# Altium schematic symbol library Passive.SchLib: 86 symbols (part 2 of 4)
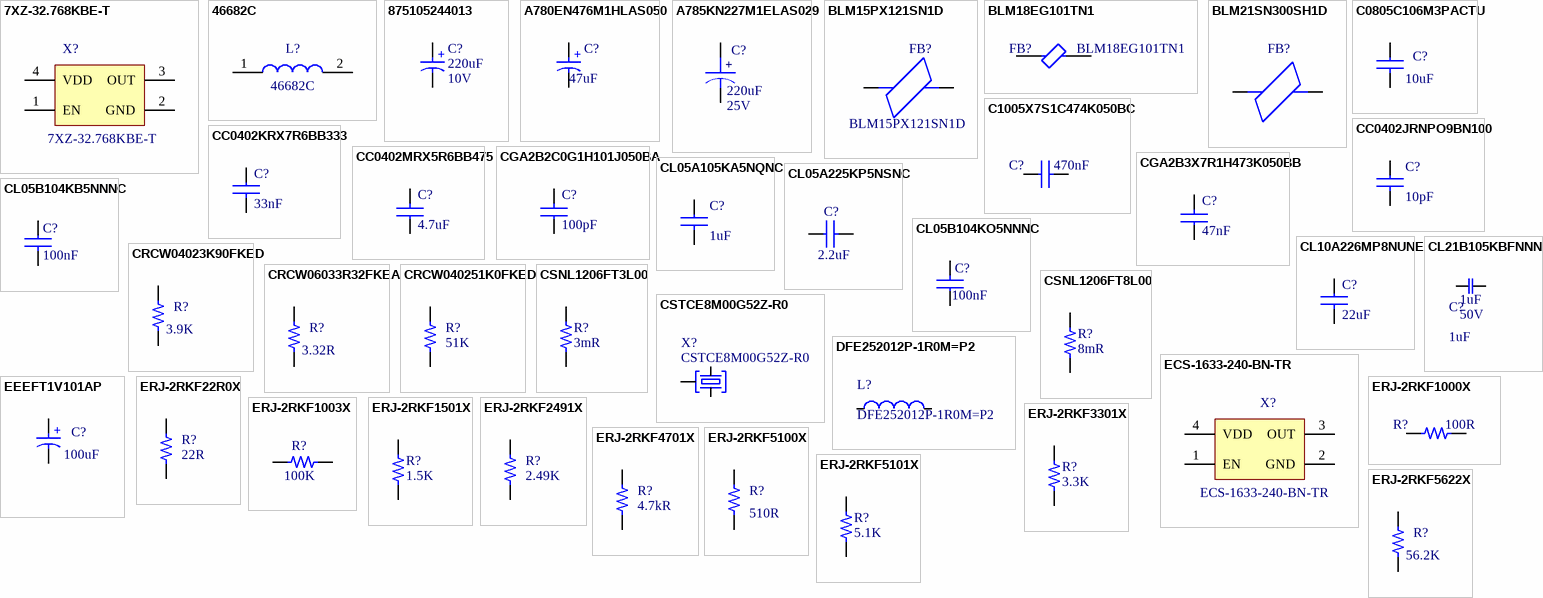
[diagram p3: symbols 7XZ-32.768KBE-T to ERJ-2RKF5622X]

## CSNL1206FT8L00
designator R?  value 8mR  (hidden comment: CSNL1206FT8L00)
Res Metal Foil 1206 0.008 Ohm 1% 1W 50ppm/C Molded SMD SMD Plastic T/R; Manufacturer: Stackpole Electronics; Temperature Coefficient: 50ppm/°C; Library: Hexabitz; Supplier: Digikey; Supplier Part Number: 738-CSNL1206FT8L00DKR-ND; Manufacturer Part Number: CSNL1206FT8L00; RoHS: Yes; Category: Chip SMD Resistors; Stock: 3650; Pricing: 1=0.67, 10=0.432, 25=0.368, 50=0.3276, 100=0.2933, 250=0.25556, 500=0.23196, 1000=0.2119 (USD); Mounting Technology: Surface Mount; Case/Package: 1206; Contact Plating: Tin,Matte; Min Operating Temperature: -55°C; Max Operating Temperature: 170°C; Packaging: Tape and Reel; Tolerance: 1%; Power Rating: 1W; Features: Moisture Resistant; Series: CSNL; Max Power Dissipation: 1W; Number of Terminations: 2; Radiation Hardening: No; RoHS Compliant: Yes; ComponentLink1URL: https://www.seielect.com/Catalog/SEI-CSNL.pdf?src-supplier=Avnet; ComponentLink1Description: https://www.seielect.com/Catalog/SEI-CSNL.pdf?src-supplier=Avnet; ComponentLink2URL: https://www.seielect.com/catalog/sei-csnl.pdf?src-supplier=Digikey; ComponentLink2Description: https://www.seielect.com/catalog/sei-csnl.pdf?src-supplier=Digikey; Supplier 1: Digikey; Supplier Part Number 1: 738-CSNL1206FT8L00DKR-ND
footprint R1206
pins: 1, 2

## CSTCE8M00G52Z-R0
designator X?
Ceramic Resonator 8MHz ±0.5% (Tol) ±0.2% (Stability) 10pF 40Ohm 3-Pin CSMD T/R; Manufacturer: Murata; Library: Hexabitz; Impedance: 40R; Value: 10pF; Case Code (Imperial): 1206; Case Code (Metric): 3216; Case/Package: 1206; Category: Capacitors; Contact Plating: Gold; Frequency: 8MHz; Frequency Stability: 0.2%; Frequency Tolerance: 0.5%; Height: 0.031inch; Length: 3.2mm; Load Capacitance: 10pF; Manufacturer Part Number: CSTCE8M00G52Z-R0; Max Operating Temperature: 125°C; Min Operating Temperature: -40°C; Mounting Technology: Surface Mount; Pins: 3; Package Quantity: 1; Packaging: Tape and Reel; RoHS Compliant: Yes; Self Resonant Frequency: 8MHz; Series: CERALOCK®; Termination: SMD/SMT; Tolerance: 0.5%; Width: 1.3mm
footprint XTALL_CSTCE8M00G52
pins: P$1 1, P$2 2, P$3 3

## DFE252012P-1R0M=P2
designator L?
Inductor Power Shielded Wirewound 1uH 20% 1MHz Metal Alloy 3.2A 0.042Ohm DCR 1008 T/R; Manufacturer: Murata; Library: Hexabitz; Core Material: Ferrite; Current Rating: 4.3A; DC Resistance (DCR): 42mR; Supplier: Digikey; Supplier Part Number: 490-10647-6-ND; Manufacturer Part Number: DFE252012P-1R0M=P2; RoHS: Yes; Category: Fixed Inductors; Stock: 162342; Pricing: 1=0.22, 10=0.179, 100=0.1471, 1000=0.12099 (USD); Mounting Technology: Surface Mount; Case/Package: 1008; Case Code (Metric): 2520; Case Code (Imperial): 1008; Min Operating Temperature: -40°C; Max Operating Temperature: 125°C; Value: 1uH; Packaging: Cut Tape; Shielding: Shielded; Test Frequency: 1MHz; Max DC Current: 3.2A; Tolerance: 20%; Series: DFE252012P; Inductance Tolerance: 20%; RMS Current (Irms): 3.2A; Saturation Current: 4.3A; ESR: 42mR; Length: 0.098inch; Width: 0.079inch; Height: 1.2mm; Height - Seated (Max): 0.039inch; Depth: 2mm; RoHS Compliant: Yes; ComponentLink1URL: http://www.farnell.com/datasheets/2550134.pdf?src-supplier=Farnell; ComponentLink1Description: http://www.farnell.com/datasheets/2550134.pdf?src-supplier=Farnell; ComponentLink2URL: https://www.murata.com/~/media/webrenewal/products/inductor/chip/tokoproducts/wirewoundmetalalloychiptype/m_dfe252012p.ashx?src-supplier=Digikey; ComponentLink2Description: https://www.murata.com/~/media/webrenewal/products/inductor/chip/tokoproducts/wirewoundmetalalloychiptype/m_dfe252012p.ashx?src-supplier=Digikey; ComponentLink3URL: http://www.murata.com/~/media/webrenewal/products/inductor/chip/tokoproducts/wirewoundmetalalloychiptype/m_dfe252012p.ashx?src-supplier=Digikey; ComponentLink3Description: http://www.murata.com/~/media/webrenewal/products/inductor/chip/tokoproducts/wirewoundmetalalloychiptype/m_dfe252012p.ashx?src-supplier=Digikey; ComponentLink4URL: http://www.toko.co.jp/products/pdf/inductors/dfe252012p.pdf?src-supplier=Avnet; ComponentLink4Description: http://www.toko.co.jp/products/pdf/inductors/dfe252012p.pdf?src-supplier=Avnet; Supplier 1: Digikey; Supplier Part Number 1: 490-10647-6-ND
footprint FP-DFE252012C-MFG
pins: 1, 2

## ECS-1633-240-BN-TR
designator X?
Oscillator XO 24MHz ±50ppm 15pF CMOS 55% 3.3V 4-Pin Mini-SMD T/R; Manufacturer: ECS International; Library: Hexabitz; Max Supply Voltage: 3.46V; Min Supply Voltage: 3.13V; Max Supply Current: 7mA; Supplier: Digikey; Supplier Part Number: XC1936DKR-ND; RoHS: Yes; Category: Oscillators; Stock: 280; Pricing: 1=1.63, 10=1.413, 50=1.2806, 100=1.2277, 500=1.113 (USD); Mounting Technology: Surface Mount; Case/Package: SMD/SMT; Min Operating Temperature: -40°C; Max Operating Temperature: 85°C; Frequency: 24MHz; Load Capacitance: 15pF; Packaging: Tape and Reel; Operating Supply Voltage: 3.3V; Termination: SMD/SMT; Frequency Stability: 50ppm; Series: ECS-1633; Lead Pitch: 0.5mm; RoHS Compliant: Yes; ComponentLink1URL: http://www.mouser.com/ds/2/122/ECS_1618-220164.pdf?src-supplier=Mouser; ComponentLink1Description: http://www.mouser.com/ds/2/122/ECS_1618-220164.pdf?src-supplier=Mouser; ComponentLink2URL: http://www.ecsxtal.com/store/pdf/ECS_1633.pdf?src-supplier=Digikey; ComponentLink2Description: http://www.ecsxtal.com/store/pdf/ECS_1633.pdf?src-supplier=Digikey; Supplier 1: Digikey; Supplier Part Number 1: XC1936DKR-ND; Manufacturer Part Number: ECS-1633-240-BN-TR
footprint CRY_NZ2016SH_4P
pins: 1 EN, 2 GND, 3 OUT, 4 VDD

## EEEFT1V101AP
designator C?  value 100uF  (hidden comment: EEEFT1V101AP)
Cap Aluminum 100uF 35V 20% (6.3 X 5.8mm) SMD 0.26 Ohm 300mA 2000h 105C T/R; Manufacturer: Panasonic; Manufacturer Part Number: EEE-FT1V101AP; Library: Hexabitz; ESR (Equivalent Series Resistance): 260mR; Leakage Current: 35uA; Life (Hours): 2000Hour; Dissipation Factor: 12%; Lead Diameter: 0.65mm; Supplier: Digikey; Supplier Part Number: PCE5016DKR-ND; RoHS: Yes; Category: Aluminum Electrolytic Capacitors; Stock: 7618; Pricing: 1=0.64, 10=0.399, 50=0.2978, 100=0.2656, 500=0.21018 (USD); Mounting Technology: Surface Mount,PCB; Case/Package: Radial; Pins: 2; Min Operating Temperature: -55°C; Max Operating Temperature: 105°C; Voltage Rating: 35V; Ripple Current (AC): 300mA; Packaging: Tape and Reel; Tolerance: 20%; Package Quantity: 1000; Voltage Rating (DC): 35V; Ripple Current: 300mA; Termination: SMD/SMT; Voltage: 35V; Series: FT; Construction: Cylindrical; Diameter: 6.3mm; Length: 5.8mm; Height: 5.8mm; Lead Pitch: 1.8mm; Ratings: AEC-Q200; Radiation Hardening: No; Reach SVHC Compliant: No; RoHS Compliant: Yes; Supplier 1: Digikey; Supplier Part Number 1: PCE5016DKR-ND; ComponentLink1URL: https://datasheet.ciiva.com/11779/0900766b80f4973e-11779553.pdf?src-supplier=Rs; ComponentLink1Description: https://datasheet.ciiva.com/11779/0900766b80f4973e-11779553.pdf?src-supplier=Rs; ComponentLink2URL: https://datasheet.ciiva.com/43458/1790597-43458694.pdf?src-supplier=Farnell; ComponentLink2Description: https://datasheet.ciiva.com/43458/1790597-43458694.pdf?src-supplier=Farnell; ComponentLink3URL: https://datasheet.ciiva.com/6134/1790597-6134203.pdf?src-supplier=Farnell; ComponentLink3Description: https://datasheet.ciiva.com/6134/1790597-6134203.pdf?src-supplier=Farnell; ComponentLink4URL: https://datasheet.ciiva.com/46376/1790597-46376763.pdf?src-supplier=Element14; ComponentLink4Description: https://datasheet.ciiva.com/46376/1790597-46376763.pdf?src-supplier=Element14; ComponentLink5URL: https://datasheet.ciiva.com/28692/1244238-28692665.pdf?src-supplier=Element14; ComponentLink5Description: https://datasheet.ciiva.com/28692/1244238-28692665.pdf?src-supplier=Element14; ComponentLink6URL: https://datasheet.ciiva.com/28692/1244238-28692663.pdf?src-supplier=Element14; ComponentLink6Description: https://datasheet.ciiva.com/28692/1244238-28692663.pdf?src-supplier=Element14; ComponentLink7URL: https://datasheet.ciiva.com/46385/1790597-46385772.pdf?src-supplier=Element14; ComponentLink7Description: https://datasheet.ciiva.com/46385/1790597-46385772.pdf?src-supplier=Element14; ComponentLink8URL: https://datasheet.ciiva.com/14596/70243693-14596537.pdf?src-supplier=Allied+Electronics; ComponentLink8Description: https://datasheet.ciiva.com/14596/70243693-14596537.pdf?src-supplier=Allied+Electronics
footprint CASE_D_AL
pins: 1 P, 2 N
text: +

## ERJ-2RKF22R0X
designator R?  value 22R  (hidden comment: ERJ-2RKF22R0X)
SMD Chip Resistor, 22 Ohm, ï¿½ 1%, 100 mW, 0402 [1005 Metric], Thick Film, Precision; Manufacturer: Panasonic; Library: Hexabitz; Power Rating: 100mW; Voltage Rating: 50V; Temperature Coefficient: 100ppm/°C; Supplier: Digikey; Supplier Part Number: P22.0LDKR-ND; Manufacturer Part Number: ERJ-2RKF22R0X; RoHS: Yes; Category: Chip SMD Resistors; Stock: 500932; Pricing: 1=0.1, 10=0.028, 100=0.0138, 1000=0.00766, 2500=0.00632, 5000=0.00554 (USD); Mounting Technology: Surface Mount; Case/Package: 0402; Pins: 2; Case Code (Imperial): 0402; Case Code (Metric): 1005; Weight: 2.8E-05oz; Contact Plating: Tin; Min Operating Temperature: -55°C; Max Operating Temperature: 155°C; Tolerance: 1%; Packaging: Tape and Reel; Package Quantity: 1; Resistor Type: Thick Film; Termination: SMD/SMT; Number of Terminations: 2; Max Power Dissipation: 100mW; Voltage Rating (DC): 50V; Features: Automotive AEC-Q200; Series: ERJ; Construction: Rectangular; Technology: THICK FILM; Resistance Tolerance: 1%; Length: 1mm; Width: 0.5mm; Height: 0.35mm; Depth: 0.5mm; Reach SVHC Compliant: Yes; Military Standard: Not; Lead Free: Lead Free; RoHS Compliant: Yes; ComponentLink1URL: https://datasheet.ciiva.com/11821/0900766b80f80784-11821251.pdf?src-supplier=Rs; ComponentLink1Description: https://datasheet.ciiva.com/11821/0900766b80f80784-11821251.pdf?src-supplier=Rs; ComponentLink2URL: https://datasheet.ciiva.com/7909/426256-7909542.pdf?src-supplier=Element14; ComponentLink2Description: https://datasheet.ciiva.com/7909/426256-7909542.pdf?src-supplier=Element14; ComponentLink3URL: https://datasheet.ciiva.com/46373/1678782-46373429.pdf?src-supplier=Element14; ComponentLink3Description: https://datasheet.ciiva.com/46373/1678782-46373429.pdf?src-supplier=Element14; ComponentLink4URL: https://datasheet.ciiva.com/46373/1678782-46373430.pdf?src-supplier=Element14; ComponentLink4Description: https://datasheet.ciiva.com/46373/1678782-46373430.pdf?src-supplier=Element14; ComponentLink5URL: https://datasheet.ciiva.com/16426/aoa0000ce2-16426205.pdf?src-supplier=Future+Electronics; ComponentLink5Description: https://datasheet.ciiva.com/16426/aoa0000ce2-16426205.pdf?src-supplier=Future+Electronics; ComponentLink6URL: https://datasheet.ciiva.com/9191/aoa0000ce2-9191819.pdf?src-supplier=Avnet; ComponentLink6Description: https://datasheet.ciiva.com/9191/aoa0000ce2-9191819.pdf?src-supplier=Avnet; Supplier 1: Digikey; Supplier Part Number 1: P22.0LDKR-ND
footprint R0402_3
pins: 1, 2

## ERJ-2RKF1000X
designator R?  value 100R  (hidden comment: ERJ-2RKF1000X)
Resistor Thick Film 0402 100 Ohm 1% 1/10W 100ppm/C Molded SMD Punched Carrier T/R; Manufacturer: Panasonic; Temperature Coefficient: 100ppm/°C; Voltage Rating: 50V; Max Power Dissipation: 100mW; Library: Hexabitz; Supplier: Digikey; Supplier Part Number: P100LDKR-ND; Manufacturer Part Number: ERJ-2RKF1000X; RoHS: Yes; Category: Chip SMD Resistors; Stock: 515171; Pricing: 1=0.1, 10=0.028, 100=0.0138, 1000=0.00766, 2500=0.00632, 5000=0.00554 (USD); Mounting Technology: Surface Mount; Case/Package: 0402; Pins: 2; Contact Plating: Tin; Case Code (Imperial): 0402; Case Code (Metric): 1005; Min Operating Temperature: -55°C; Max Operating Temperature: 155°C; Resistor Type: Thick Film; Packaging: Tape and Reel; Package Quantity: 1; Termination: SMD/SMT; Number of Terminations: 2; Voltage Rating (DC): 50V; Features: Automotive AEC-Q200; Series: ERJ; Technology: THICK FILM; Resistance Tolerance: 1%; Construction: Rectangular; Length: 1mm; Width: 0.5mm; Height: 0.35mm; Depth: 0.5mm; Radiation Hardening: No; Reach SVHC Compliant: No; Military Standard: Not; RoHS Compliant: Yes; Lead Free: 5697LeadFree; ComponentLink1URL: https://datasheet.ciiva.com/27056/2007311-27056035.pdf?src-supplier=Jameco; ComponentLink1Description: https://datasheet.ciiva.com/27056/2007311-27056035.pdf?src-supplier=Jameco; ComponentLink2URL: https://datasheet.ciiva.com/11821/0900766b80f80784-11821173.pdf?src-supplier=Rs; ComponentLink2Description: https://datasheet.ciiva.com/11821/0900766b80f80784-11821173.pdf?src-supplier=Rs; ComponentLink3URL: https://datasheet.ciiva.com/7830/426256-7830973.pdf?src-supplier=Element14; ComponentLink3Description: https://datasheet.ciiva.com/7830/426256-7830973.pdf?src-supplier=Element14; ComponentLink4URL: https://datasheet.ciiva.com/43467/1678782-43467223.pdf?src-supplier=Farnell; ComponentLink4Description: https://datasheet.ciiva.com/43467/1678782-43467223.pdf?src-supplier=Farnell; ComponentLink5URL: https://datasheet.ciiva.com/28514/1678782-28514175.pdf?src-supplier=Element14; ComponentLink5Description: https://datasheet.ciiva.com/28514/1678782-28514175.pdf?src-supplier=Element14; ComponentLink6URL: https://datasheet.ciiva.com/46372/1678782-46372741.pdf?src-supplier=Element14; ComponentLink6Description: https://datasheet.ciiva.com/46372/1678782-46372741.pdf?src-supplier=Element14; ComponentLink7URL: https://datasheet.ciiva.com/16776/70260748-16776427.pdf?src-supplier=Allied+Electronics; ComponentLink7Description: https://datasheet.ciiva.com/16776/70260748-16776427.pdf?src-supplier=Allied+Electronics; ComponentLink8URL: https://datasheet.ciiva.com/9186/aoa0000ce2-9186683.pdf?src-supplier=Avnet; ComponentLink8Description: https://datasheet.ciiva.com/9186/aoa0000ce2-9186683.pdf?src-supplier=Avnet; ComponentLink9URL: https://datasheet.ciiva.com/16199/aoa0000ce2-16199575.pdf?src-supplier=Future+Electronics; ComponentLink9Description: https://datasheet.ciiva.com/16199/aoa0000ce2-16199575.pdf?src-supplier=Future+Electronics; ComponentLink10URL: https://datasheet.ciiva.com/48531/aoa0000ce2-48531067.pdf?src-supplier=Avnet; ComponentLink10Description: https://datasheet.ciiva.com/48531/aoa0000ce2-48531067.pdf?src-supplier=Avnet; ComponentLink11URL: https://datasheet.ciiva.com/30260/aoa0000ce2-30260809.pdf?src-supplier=Onlinecomponents.com; ComponentLink11Description: https://datasheet.ciiva.com/30260/aoa0000ce2-30260809.pdf?src-supplier=Onlinecomponents.com; Power Rating: 100mW; Tolerance: 1%; Supplier 1: Digikey; Supplier Part Number 1: P100LDKR-ND; Supplier 2: Mouser; Supplier Part Number 2: 667-ERJ-2RKF1000X
footprint R0402_3
pins: 1, 2

## ERJ-2RKF1003X
designator R?  value 100K  (hidden comment: ERJ-2RKF1003X)
Res Thick Film 0402 100K Ohm 1% 1/10W ±100ppm/°C Molded SMD Punched Carrier T/R; Manufacturer: Panasonic; Power Rating: 100mW; Voltage Rating: 50V; Library: Hexabitz; Supplier: Digikey; Supplier Part Number: P100KLCT-ND; Manufacturer Part Number: ERJ-2RKF1003X; RoHS: Yes; Category: Chip SMD Resistors; Stock: 3425412; Pricing: 1=0.1, 10=0.028, 100=0.0138, 1000=0.00766, 2500=0.00632, 5000=0.00554 (USD); Case Code (Imperial): 0402; Case Code (Metric): 1005; Weight: 0.000388oz; Min Operating Temperature: -55°C; Max Operating Temperature: 155°C; Tolerance: 1%; Packaging: Cut Tape; Package Quantity: 10000; Termination: SMD/SMT; Temperature Coefficient: 100ppm/°C; Series: ERJ-2Rx; Technology: THICK FILM; Voltage Rating (DC): 50V; Length: 1mm; Width: 0.5mm; Height: 0.35mm; RoHS Compliant: Yes; ComponentLink1URL: https://datasheet.ciiva.com/34303/1987038-34303550.pdf?src-supplier=Jameco; ComponentLink1Description: https://datasheet.ciiva.com/34303/1987038-34303550.pdf?src-supplier=Jameco; ComponentLink2URL: https://datasheet.ciiva.com/11821/0900766b80f80784-11821175.pdf?src-supplier=Rs; ComponentLink2Description: https://datasheet.ciiva.com/11821/0900766b80f80784-11821175.pdf?src-supplier=Rs; ComponentLink3URL: https://datasheet.ciiva.com/7830/aoa0000ce2-7830725.pdf?src-supplier=Element14; ComponentLink3Description: https://datasheet.ciiva.com/7830/aoa0000ce2-7830725.pdf?src-supplier=Element14; ComponentLink4URL: https://datasheet.ciiva.com/7830/426256-7830974.pdf?src-supplier=Element14; ComponentLink4Description: https://datasheet.ciiva.com/7830/426256-7830974.pdf?src-supplier=Element14; ComponentLink5URL: https://datasheet.ciiva.com/43467/1678782-43467480.pdf?src-supplier=Farnell; ComponentLink5Description: https://datasheet.ciiva.com/43467/1678782-43467480.pdf?src-supplier=Farnell; ComponentLink6URL: https://datasheet.ciiva.com/22723/426256-22723902.pdf?src-supplier=Element14; ComponentLink6Description: https://datasheet.ciiva.com/22723/426256-22723902.pdf?src-supplier=Element14; ComponentLink7URL: https://datasheet.ciiva.com/16778/70260748-16778055.pdf?src-supplier=Allied+Electronics; ComponentLink7Description: https://datasheet.ciiva.com/16778/70260748-16778055.pdf?src-supplier=Allied+Electronics; ComponentLink8URL: https://datasheet.ciiva.com/16784/70260748-16784190.pdf?src-supplier=Allied+Electronics; ComponentLink8Description: https://datasheet.ciiva.com/16784/70260748-16784190.pdf?src-supplier=Allied+Electronics; Supplier 1: Digikey; Supplier Part Number 1: P100KLDKR-ND
footprint R0402_3
pins: 1, 2

## ERJ-2RKF1501X
designator R?  value 1.5K  (hidden comment: ERJ-2RKF1501X)
Res Thick Film 0402 1.5K Ohm 1% 1/10W +/-100ppm/ßC Molded SMD Punched Carrier T/R; Manufacturer: Panasonic; Temperature Coefficient: 100ppm/°C; Power Rating: 100mW; Voltage Rating: 50V; Library: Hexabitz; Supplier: Digikey; Supplier Part Number: P1.50KLDKR-ND; Manufacturer Part Number: ERJ-2RKF1501X; RoHS: Yes; Category: Chip SMD Resistors; Stock: 408359; Pricing: 1=0.1, 10=0.028, 100=0.0138, 1000=0.00766, 2500=0.00632, 5000=0.00554 (USD); Mounting Technology: Surface Mount; Case/Package: 0402; Pins: 2NUMBER; Contact Plating: Tin; Case Code (Metric): 1005; Case Code (Imperial): 0402; Min Operating Temperature: -55°C; Max Operating Temperature: 155°C; Tolerance: 1%; Resistor Type: Thick Film; Packaging: Tape and Reel; Package Quantity: 1; Number of Terminations: 2; Termination: SMD/SMT; Max Power Dissipation: 100mW; Features: Automotive AEC-Q200; Series: ERJ; Resistance Tolerance: 1%; Construction: Rectangular; Technology: THICK FILM; Voltage Rating (DC): 50V; Length: 1mm; Width: 0.5mm; Height: 0.35mm; Depth: 0.5mm; Reach SVHC Compliant: No; Military Standard: Not; RoHS Compliant: Yes; Lead Free: 5697LeadFree; ComponentLink1URL: https://datasheet.ciiva.com/11821/0900766b80f80784-11821235.pdf?src-supplier=Rs; ComponentLink1Description: https://datasheet.ciiva.com/11821/0900766b80f80784-11821235.pdf?src-supplier=Rs; ComponentLink2URL: https://datasheet.ciiva.com/34303/1987134-34303556.pdf?src-supplier=Jameco; ComponentLink2Description: https://datasheet.ciiva.com/34303/1987134-34303556.pdf?src-supplier=Jameco; ComponentLink3URL: https://datasheet.ciiva.com/7830/1678782-7830975.pdf?src-supplier=Element14; ComponentLink3Description: https://datasheet.ciiva.com/7830/1678782-7830975.pdf?src-supplier=Element14; ComponentLink4URL: https://datasheet.ciiva.com/22667/1678782-22667879.pdf?src-supplier=Element14; ComponentLink4Description: https://datasheet.ciiva.com/22667/1678782-22667879.pdf?src-supplier=Element14; ComponentLink5URL: https://datasheet.ciiva.com/16508/aoa0000ce2-16508333.pdf?src-supplier=Future+Electronics; ComponentLink5Description: https://datasheet.ciiva.com/16508/aoa0000ce2-16508333.pdf?src-supplier=Future+Electronics; ComponentLink6URL: https://datasheet.ciiva.com/43467/1678782-43467327.pdf?src-supplier=Farnell; ComponentLink6Description: https://datasheet.ciiva.com/43467/1678782-43467327.pdf?src-supplier=Farnell; ComponentLink7URL: https://datasheet.ciiva.com/46372/1678782-46372697.pdf?src-supplier=Element14; ComponentLink7Description: https://datasheet.ciiva.com/46372/1678782-46372697.pdf?src-supplier=Element14; ComponentLink8URL: https://datasheet.ciiva.com/46372/1678782-46372698.pdf?src-supplier=Element14; ComponentLink8Description: https://datasheet.ciiva.com/46372/1678782-46372698.pdf?src-supplier=Element14; ComponentLink9URL: https://datasheet.ciiva.com/24072/aoa0000ce2-24072039.pdf?src-supplier=Mouser; ComponentLink9Description: https://datasheet.ciiva.com/24072/aoa0000ce2-24072039.pdf?src-supplier=Mouser; ComponentLink10URL: https://datasheet.ciiva.com/16761/70260748-16761256.pdf?src-supplier=Allied+Electronics; ComponentLink10Description: https://datasheet.ciiva.com/16761/70260748-16761256.pdf?src-supplier=Allied+Electronics; Supplier 1: Digikey; Supplier Part Number 1: P1.50KLDKR-ND
footprint R0402_3
pins: 1, 2

## ERJ-2RKF2491X
designator R?  value 2.49K  (hidden comment: ERJ-2RKF2491X)
Res Thick Film 0402 2.49K Ohm 1% 1/10W +/-100ppm/ßC Molded SMD Punched Carrier T/R; Manufacturer: Panasonic; Library: Hexabitz; Voltage Rating (DC): 50V; Supplier: Digikey; Supplier Part Number: P2.49KLDKR-ND; Manufacturer Part Number: ERJ-2RKF2491X; RoHS: Yes; Category: Chip SMD Resistors; Stock: 331101; Pricing: 1=0.1, 10=0.028, 100=0.0138, 1000=0.00766, 2500=0.00632, 5000=0.00554 (USD); Pins: 2NUMBER; Lead Free: 5697LeadFree; ComponentLink1URL: https://datasheet.ciiva.com/24024/aoa0000ce2-24024651.pdf?src-supplier=Mouser; ComponentLink1Description: https://datasheet.ciiva.com/24024/aoa0000ce2-24024651.pdf?src-supplier=Mouser; ComponentLink2URL: https://datasheet.ciiva.com/5969/426256-5969210.pdf?src-supplier=Farnell; ComponentLink2Description: https://datasheet.ciiva.com/5969/426256-5969210.pdf?src-supplier=Farnell; ComponentLink3URL: https://datasheet.ciiva.com/43460/426256-43460300.pdf?src-supplier=Farnell; ComponentLink3Description: https://datasheet.ciiva.com/43460/426256-43460300.pdf?src-supplier=Farnell; ComponentLink4URL: https://datasheet.ciiva.com/9197/aoa0000ce2-9197019.pdf?src-supplier=Avnet; ComponentLink4Description: https://datasheet.ciiva.com/9197/aoa0000ce2-9197019.pdf?src-supplier=Avnet; ComponentLink5URL: https://datasheet.ciiva.com/28548/1678782-28548269.pdf?src-supplier=Element14; ComponentLink5Description: https://datasheet.ciiva.com/28548/1678782-28548269.pdf?src-supplier=Element14; ComponentLink6URL: https://datasheet.ciiva.com/28694/1678782-28694207.pdf?src-supplier=Element14; ComponentLink6Description: https://datasheet.ciiva.com/28694/1678782-28694207.pdf?src-supplier=Element14; ComponentLink7URL: https://datasheet.ciiva.com/46388/426256-46388155.pdf?src-supplier=Element14; ComponentLink7Description: https://datasheet.ciiva.com/46388/426256-46388155.pdf?src-supplier=Element14; Supplier 1: Digikey; Supplier Part Number 1: P2.49KLDKR-ND
footprint R0402_3
pins: 1, 2

## ERJ-2RKF3301X
designator R?  value 3.3K  (hidden comment: ERJ-2RKF3301X)
Res Thick Film 0402 3.3K Ohm 1% 0.1W ±100ppm/°C Molded SMD Punched Carrier T/R; Manufacturer: Panasonic; Power Rating: 100mW; Voltage Rating: 50V; Library: Hexabitz; Supplier: Digikey; Supplier Part Number: P3.30KLDKR-ND; Manufacturer Part Number: ERJ-2RKF3301X; RoHS: Yes; Category: Chip SMD Resistors; Stock: 287411; Pricing: 1=0.1, 10=0.028, 100=0.0138, 1000=0.00766, 2500=0.00632, 5000=0.00554 (USD); Mounting Technology: Surface Mount; Case/Package: 0402; Pins: 2; Case Code (Metric): 1005; Case Code (Imperial): 0402; Contact Plating: Tin; Min Operating Temperature: -55°C; Max Operating Temperature: 155°C; Tolerance: 1%; Packaging: Tape and Reel; Package Quantity: 1; Resistor Type: Thick Film; Number of Terminations: 2; Termination: SMD/SMT; Temperature Coefficient: 100ppm/°C; Max Power Dissipation: 100mW; Voltage Rating (DC): 50V; Features: Automotive AEC-Q200; Series: ERJ; Technology: THICK FILM; Resistance Tolerance: 1%; Construction: Rectangular; Length: 1mm; Width: 0.5mm; Height: 0.35mm; Depth: 0.5mm; Ratings: AEC-Q200; Radiation Hardening: No; Reach SVHC Compliant: Yes; Military Standard: Not; Lead Free: Lead Free; RoHS Compliant: Yes; ComponentLink1URL: https://datasheet.ciiva.com/11821/0900766b80f80784-11821314.pdf?src-supplier=Rs; ComponentLink1Description: https://datasheet.ciiva.com/11821/0900766b80f80784-11821314.pdf?src-supplier=Rs; ComponentLink2URL: https://datasheet.ciiva.com/6138/aoa0000ce2-6138172.pdf?src-supplier=Farnell; ComponentLink2Description: https://datasheet.ciiva.com/6138/aoa0000ce2-6138172.pdf?src-supplier=Farnell; ComponentLink3URL: https://datasheet.ciiva.com/43467/1678782-43467358.pdf?src-supplier=Farnell; ComponentLink3Description: https://datasheet.ciiva.com/43467/1678782-43467358.pdf?src-supplier=Farnell; ComponentLink4URL: https://datasheet.ciiva.com/22667/1678782-22667883.pdf?src-supplier=Element14; ComponentLink4Description: https://datasheet.ciiva.com/22667/1678782-22667883.pdf?src-supplier=Element14; ComponentLink5URL: https://datasheet.ciiva.com/22687/1678782-22687445.pdf?src-supplier=Element14; ComponentLink5Description: https://datasheet.ciiva.com/22687/1678782-22687445.pdf?src-supplier=Element14; ComponentLink6URL: https://datasheet.ciiva.com/46372/1678782-46372730.pdf?src-supplier=Element14; ComponentLink6Description: https://datasheet.ciiva.com/46372/1678782-46372730.pdf?src-supplier=Element14; ComponentLink7URL: https://datasheet.ciiva.com/46372/1678782-46372731.pdf?src-supplier=Element14; ComponentLink7Description: https://datasheet.ciiva.com/46372/1678782-46372731.pdf?src-supplier=Element14; ComponentLink8URL: https://datasheet.ciiva.com/7802/aoa0000ce2-7802408.pdf?src-supplier=Element14; ComponentLink8Description: https://datasheet.ciiva.com/7802/aoa0000ce2-7802408.pdf?src-supplier=Element14; ComponentLink9URL: https://datasheet.ciiva.com/16773/70260748-16773756.pdf?src-supplier=Allied+Electronics; ComponentLink9Description: https://datasheet.ciiva.com/16773/70260748-16773756.pdf?src-supplier=Allied+Electronics; ComponentLink10URL: https://datasheet.ciiva.com/16777/70260748-16777945.pdf?src-supplier=Allied+Electronics; ComponentLink10Description: https://datasheet.ciiva.com/16777/70260748-16777945.pdf?src-supplier=Allied+Electronics; ComponentLink11URL: https://datasheet.ciiva.com/30264/aoa0000ce2-30264303.pdf?src-supplier=Onlinecomponents.com; ComponentLink11Description: https://datasheet.ciiva.com/30264/aoa0000ce2-30264303.pdf?src-supplier=Onlinecomponents.com; Supplier 1: Digikey; Supplier Part Number 1: P3.30KLDKR-ND
footprint R0402_3
pins: 1, 2

## ERJ-2RKF4701X
designator R?  value 4.7kR  (hidden comment: ERJ-2RKF4701X)
Res Thick Film 0402 4.7K Ohm 1% 0.1W ±100ppm/°C Molded SMD Punched Carrier T/R; Manufacturer: Panasonic; Library: Hexabitz; Power Rating: 100mW; Voltage Rating: 50V; Supplier: Digikey; Supplier Part Number: P4.70KLDKR-ND; Manufacturer Part Number: ERJ-2RKF4701X; RoHS: Yes; Category: Chip SMD Resistors; Stock: 839511; Pricing: 1=0.1, 10=0.028, 100=0.0138, 1000=0.00766, 2500=0.00632, 5000=0.00554 (USD); Case Code (Metric): 1005; Case Code (Imperial): 0402; Weight: 0.000388oz; Min Operating Temperature: -55°C; Max Operating Temperature: 155°C; Tolerance: 1%; Temperature Coefficient: 100ppm/°C; Packaging: Cut Tape; Package Quantity: 10000; Termination: SMD/SMT; Series: ERJ-2Rx; Technology: THICK FILM; Voltage Rating (DC): 50V; Length: 1mm; Width: 0.5mm; Height: 0.35mm; RoHS Compliant: Yes; Lead Free: 5697LeadFree; ComponentLink1URL: https://datasheet.ciiva.com/11821/0900766b80f80784-11821329.pdf?src-supplier=Rs; ComponentLink1Description: https://datasheet.ciiva.com/11821/0900766b80f80784-11821329.pdf?src-supplier=Rs; ComponentLink2URL: https://datasheet.ciiva.com/7830/aoa0000ce2-7830727.pdf?src-supplier=Element14; ComponentLink2Description: https://datasheet.ciiva.com/7830/aoa0000ce2-7830727.pdf?src-supplier=Element14; ComponentLink3URL: https://datasheet.ciiva.com/22781/1678782-22781576.pdf?src-supplier=Farnell; ComponentLink3Description: https://datasheet.ciiva.com/22781/1678782-22781576.pdf?src-supplier=Farnell; ComponentLink4URL: https://datasheet.ciiva.com/22667/1678782-22667886.pdf?src-supplier=Element14; ComponentLink4Description: https://datasheet.ciiva.com/22667/1678782-22667886.pdf?src-supplier=Element14; ComponentLink5URL: https://datasheet.ciiva.com/22723/1678782-22723903.pdf?src-supplier=Element14; ComponentLink5Description: https://datasheet.ciiva.com/22723/1678782-22723903.pdf?src-supplier=Element14; ComponentLink6URL: https://datasheet.ciiva.com/24025/aoa0000ce2-24025663.pdf?src-supplier=Mouser; ComponentLink6Description: https://datasheet.ciiva.com/24025/aoa0000ce2-24025663.pdf?src-supplier=Mouser; ComponentLink7URL: https://datasheet.ciiva.com/16763/70260748-16763151.pdf?src-supplier=Allied+Electronics; ComponentLink7Description: https://datasheet.ciiva.com/16763/70260748-16763151.pdf?src-supplier=Allied+Electronics; ComponentLink8URL: https://datasheet.ciiva.com/9195/aoa0000ce2-9195737.pdf?src-supplier=Avnet; ComponentLink8Description: https://datasheet.ciiva.com/9195/aoa0000ce2-9195737.pdf?src-supplier=Avnet; ComponentLink9URL: https://datasheet.ciiva.com/30053/aoa0000ce2-30053990.pdf?src-supplier=Onlinecomponents.com; ComponentLink9Description: https://datasheet.ciiva.com/30053/aoa0000ce2-30053990.pdf?src-supplier=Onlinecomponents.com; Supplier 1: Digikey; Supplier Part Number 1: P4.70KLCT-ND
footprint R0402_3
pins: 1, 2

## ERJ-2RKF5100X
designator R?  value 510R  (hidden comment: ERJ-2RKF5100X)
SMD Chip Resistor, 510 ohm, ï¿½ 1%, 100 mW, 0402 [1005 Metric], Thick Film, Precision; Manufacturer: Panasonic; Library: Hexabitz; Power Rating: 100mW; Voltage Rating: 50V; Temperature Coefficient: 100ppm/°C; Supplier: Digikey; Supplier Part Number: P510LDKR-ND; Manufacturer Part Number: ERJ-2RKF5100X; RoHS: Yes; Category: Chip SMD Resistors; Stock: 153361; Pricing: 1=0.1, 10=0.028, 100=0.0138, 1000=0.00766, 2500=0.00632, 5000=0.00554 (USD); Mounting Technology: Surface Mount; Case/Package: 0402; Case Code (Imperial): 0402; Case Code (Metric): 1005; Contact Plating: Tin; Min Operating Temperature: -55°C; Max Operating Temperature: 155°C; Tolerance: 1%; Packaging: Tape and Reel; Package Quantity: 10000; Termination: SMD/SMT; Resistor Type: Thick Film; Number of Terminations: 2; Max Power Dissipation: 100mW; Features: Automotive AEC-Q200; Series: ERJ; Resistance Tolerance: 1%; Construction: Rectangular; Technology: THICK FILM; Voltage Rating (DC): 50V; Length: 1mm; Width: 0.5mm; Height: 0.35mm; Depth: 0.5mm; Ratings: AEC-Q200; Reach SVHC Compliant: Yes; Military Standard: Not; RoHS Compliant: Yes; ComponentLink1URL: https://datasheet.ciiva.com/11821/0900766b80f80784-11821323.pdf?src-supplier=Rs; ComponentLink1Description: https://datasheet.ciiva.com/11821/0900766b80f80784-11821323.pdf?src-supplier=Rs; ComponentLink2URL: https://datasheet.ciiva.com/7891/1678782-7891580.pdf?src-supplier=Element14; ComponentLink2Description: https://datasheet.ciiva.com/7891/1678782-7891580.pdf?src-supplier=Element14; ComponentLink3URL: https://datasheet.ciiva.com/28565/1694929-28565051.pdf?src-supplier=Element14; ComponentLink3Description: https://datasheet.ciiva.com/28565/1694929-28565051.pdf?src-supplier=Element14; ComponentLink4URL: https://datasheet.ciiva.com/16759/70260748-16759599.pdf?src-supplier=Allied+Electronics; ComponentLink4Description: https://datasheet.ciiva.com/16759/70260748-16759599.pdf?src-supplier=Allied+Electronics; ComponentLink5URL: https://datasheet.ciiva.com/16788/70260748-16788875.pdf?src-supplier=Allied+Electronics; ComponentLink5Description: https://datasheet.ciiva.com/16788/70260748-16788875.pdf?src-supplier=Allied+Electronics; ComponentLink6URL: https://datasheet.ciiva.com/30215/aoa0000ce2-30215080.pdf?src-supplier=Onlinecomponents.com; ComponentLink6Description: https://datasheet.ciiva.com/30215/aoa0000ce2-30215080.pdf?src-supplier=Onlinecomponents.com; Supplier 1: Digikey; Supplier Part Number 1: P510LDKR-ND
footprint R0402_3
pins: 1, 2

## ERJ-2RKF5101X
designator R?  value 5.1K  (hidden comment: ERJ-2RKF5101X)
Res Thick Film 0402 5.1K Ohm 1% 0.1W ±100ppm/°C Molded SMD Punched Carrier T/R; Manufacturer: Panasonic; Power Rating: 100mW; Voltage Rating: 50V; Library: Hexabitz; Supplier: Digikey; Supplier Part Number: P5.10KLDKR-ND; Manufacturer Part Number: ERJ-2RKF5101X; RoHS: Yes; Category: Chip SMD Resistors; Stock: 347277; Pricing: 1=0.09, 10=0.025, 100=0.09, 1000=0.00673, 2500=0.00555, 5000=0.00487 (EUR); Mounting Technology: Surface Mount; Case/Package: 0402; Case Code (Imperial): 0402; Case Code (Metric): 1005; Weight: 2.8E-05oz; Contact Plating: Tin; Min Operating Temperature: -55°C; Max Operating Temperature: 155°C; Tolerance: 1%; Packaging: Tape and Reel; Package Quantity: 10000; Resistor Type: Thick Film; Termination: SMD/SMT; Number of Terminations: 2; Temperature Coefficient: 100ppm/°C; Max Power Dissipation: 100mW; Series: ERJ; Resistance Tolerance: 1%; Technology: THICK FILM; Construction: Rectangular; Voltage Rating (DC): 50V; Length: 1mm; Width: 0.5mm; Height: 0.35mm; Depth: 0.5mm; Reach SVHC Compliant: No; Military Standard: Not; RoHS Compliant: Yes; Lead Free: 5697LeadFree; ComponentLink1URL: https://datasheet.ciiva.com/11821/0900766b80f80784-11821351.pdf?src-supplier=Rs; ComponentLink1Description: https://datasheet.ciiva.com/11821/0900766b80f80784-11821351.pdf?src-supplier=Rs; ComponentLink2URL: https://datasheet.ciiva.com/43467/1678782-43467375.pdf?src-supplier=Farnell; ComponentLink2Description: https://datasheet.ciiva.com/43467/1678782-43467375.pdf?src-supplier=Farnell; ComponentLink3URL: https://datasheet.ciiva.com/16761/70260748-16761739.pdf?src-supplier=Allied+Electronics; ComponentLink3Description: https://datasheet.ciiva.com/16761/70260748-16761739.pdf?src-supplier=Allied+Electronics; ComponentLink4URL: https://datasheet.ciiva.com/16788/70260748-16788554.pdf?src-supplier=Allied+Electronics; ComponentLink4Description: https://datasheet.ciiva.com/16788/70260748-16788554.pdf?src-supplier=Allied+Electronics; ComponentLink5URL: https://datasheet.ciiva.com/9195/aoa0000ce2-9195580.pdf?src-supplier=Avnet; ComponentLink5Description: https://datasheet.ciiva.com/9195/aoa0000ce2-9195580.pdf?src-supplier=Avnet; Supplier 1: Digikey; Supplier Part Number 1: P5.10KLDKR-ND
footprint R0402_3
pins: 1, 2

## ERJ-2RKF5622X
designator R?  value 56.2K  (hidden comment: ERJ-2RKF5622X)
Res Thick Film 0402 56.2K Ohm 1% 1/10W ±100ppm/|C SMD Punched Carrier T/R; Manufacturer: Panasonic; Power Rating: 100mW; Voltage Rating: 50V; Temperature Coefficient: 100ppm/°C; Library: Hexabitz; Supplier: Digikey; Supplier Part Number: P56.2KLDKR-ND; Manufacturer Part Number: ERJ-2RKF5622X; RoHS: Yes; Category: Chip SMD Resistors; Stock: 72812; Pricing: 1=0.1, 10=0.028, 100=0.0138, 1000=0.00766, 2500=0.00632, 5000=0.00554 (USD); Mounting Technology: Surface Mount; Case/Package: 0402; Case Code (Metric): 1005; Case Code (Imperial): 0402; Weight: 2.8E-05oz; Contact Plating: Tin; Min Operating Temperature: -55°C; Max Operating Temperature: 155°C; Tolerance: 1%; Packaging: Tape and Reel; Package Quantity: 1; Resistor Type: Thick Film; Number of Terminations: 2; Termination: SMD/SMT; Max Power Dissipation: 100mW; Voltage Rating (DC): 50V; Features: Automotive AEC-Q200; Series: ERJ; Resistance Tolerance: 1%; Construction: Rectangular; Length: 1mm; Width: 0.5mm; Height: 0.016inch; Depth: 0.5mm; Ratings: AEC-Q200; Reach SVHC Compliant: No; Military Standard: Not; Lead Free: Lead Free; RoHS Compliant: Yes; ComponentLink1URL: https://datasheet.ciiva.com/43460/426256-43460333.pdf?src-supplier=Farnell; ComponentLink1Description: https://datasheet.ciiva.com/43460/426256-43460333.pdf?src-supplier=Farnell; ComponentLink2URL: https://datasheet.ciiva.com/9188/aoa0000ce2-9188636.pdf?src-supplier=Avnet; ComponentLink2Description: https://datasheet.ciiva.com/9188/aoa0000ce2-9188636.pdf?src-supplier=Avnet; ComponentLink3URL: https://datasheet.ciiva.com/30228/aoa0000ce2-30228952.pdf?src-supplier=Onlinecomponents.com; ComponentLink3Description: https://datasheet.ciiva.com/30228/aoa0000ce2-30228952.pdf?src-supplier=Onlinecomponents.com; ComponentLink4URL: https://datasheet.ciiva.com/28695/1678782-28695787.pdf?src-supplier=Element14; ComponentLink4Description: https://datasheet.ciiva.com/28695/1678782-28695787.pdf?src-supplier=Element14; ComponentLink5URL: https://datasheet.ciiva.com/46377/426256-46377549.pdf?src-supplier=Element14; ComponentLink5Description: https://datasheet.ciiva.com/46377/426256-46377549.pdf?src-supplier=Element14; ComponentLink6URL: https://datasheet.ciiva.com/24124/aoa0000ce2-24124319.pdf?src-supplier=Mouser; ComponentLink6Description: https://datasheet.ciiva.com/24124/aoa0000ce2-24124319.pdf?src-supplier=Mouser; Supplier 1: Digikey; Supplier Part Number 1: P56.2KLDKR-ND
footprint R0402_3
pins: 1, 2

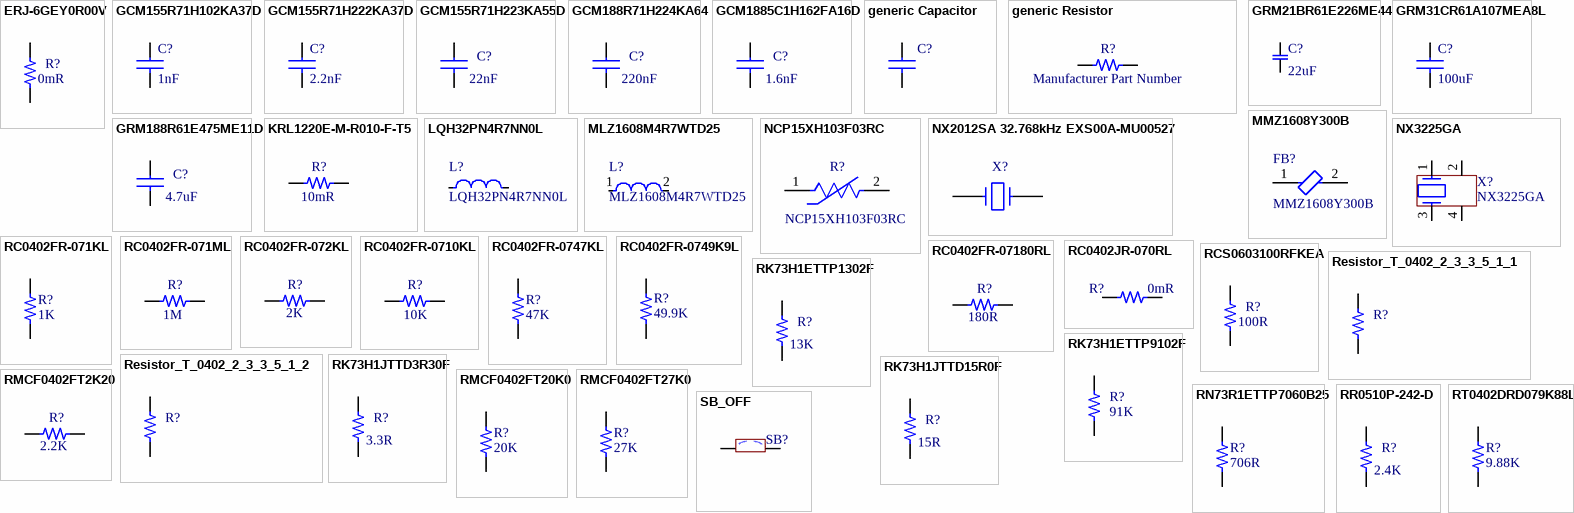
[diagram p1: symbols ERJ-6GEY0R00V to SB_OFF]

## ERJ-6GEY0R00V
designator R?  value 0mR  (hidden comment: ERJ-6GEY0R00V)
Multilayer Ceramic Capacitor 1000 Pf 50 V ½ 10% X7R 0402 [1005 Metric]; Manufacturer: Panasonic; Voltage Rating: 150V; Power Rating: 125mW; Tolerance: 5%; Temperature Coefficient: 600ppm/°C; Current Rating: 2A; Library: Hexabitz; Voltage: 50V; Supplier: Digikey; Supplier Part Number: P0.0ADKR-ND; Manufacturer Part Number: ERJ-6GEY0R00V; RoHS: Yes; Category: Chip SMD Resistors; Stock: 3132546; Pricing: 1=0.1, 10=0.028, 25=0.0236, 50=0.0204, 100=0.0179, 250=0.01516, 500=0.01342, 1000=0.01193 (USD); Mounting Technology: Surface Mount; Case/Package: 0805; Pins: 2; Case Code (Imperial): 0805; Case Code (Metric): 2012; Contact Plating: Tin; Min Operating Temperature: -55°C; Max Operating Temperature: 155°C; Packaging: Tape and Reel; Package Quantity: 1; Termination: SMD/SMT; Resistor Type: Thick Film; Number of Terminations: 2; Max Power Dissipation: 125mW; Voltage Rating (DC): 150V; Features: Automotive AEC-Q200; Series: ERJ; Technology: THICK FILM; Construction: Rectangular; Length: 2mm; Width: 1.25mm; Height: 0.6mm; Depth: 1.25mm; Ratings: AEC-Q200; Radiation Hardening: No; Reach SVHC Compliant: No; Military Standard: Not; Lead Free: Lead Free; RoHS Compliant: Yes; ComponentLink1URL: https://datasheet.ciiva.com/11821/0900766b80f806dd-11821735.pdf?src-supplier=Rs; ComponentLink1Description: https://datasheet.ciiva.com/11821/0900766b80f806dd-11821735.pdf?src-supplier=Rs; ComponentLink2URL: https://datasheet.ciiva.com/43460/1678796-43460073.pdf?src-supplier=Farnell; ComponentLink2Description: https://datasheet.ciiva.com/43460/1678796-43460073.pdf?src-supplier=Farnell; ComponentLink3URL: https://datasheet.ciiva.com/28695/1678796-28695877.pdf?src-supplier=Element14; ComponentLink3Description: https://datasheet.ciiva.com/28695/1678796-28695877.pdf?src-supplier=Element14; ComponentLink4URL: https://datasheet.ciiva.com/46377/1678796-46377866.pdf?src-supplier=Element14; ComponentLink4Description: https://datasheet.ciiva.com/46377/1678796-46377866.pdf?src-supplier=Element14; Supplier 1: Digikey; Supplier Part Number 1: P0.0ADKR-ND; Material: Ceramic; Dielectric: X7R; Thickness: 0.022inch; ComponentLink5URL: https://datasheet.ciiva.com/130/product-130720.pdf?src-supplier=Digikey; ComponentLink5Description: https://datasheet.ciiva.com/130/product-130720.pdf?src-supplier=Digikey; ComponentLink6URL: https://datasheet.ciiva.com/3778/3103gcm155r71h102ka3723-3778878.pdf?src-supplier=Arrow+Electronics; ComponentLink6Description: https://datasheet.ciiva.com/3778/3103gcm155r71h102ka3723-3778878.pdf?src-supplier=Arrow+Electronics; ComponentLink7URL: https://datasheet.ciiva.com/18183/getdatasheetpartid-140970-18183520.pdf?src-supplier=Verical; ComponentLink7Description: https://datasheet.ciiva.com/18183/getdatasheetpartid-140970-18183520.pdf?src-supplier=Verical; ComponentLink8URL: https://datasheet.ciiva.com/11786/0900766b80ef92d0-11786143.pdf?src-supplier=Rs; ComponentLink8Description: https://datasheet.ciiva.com/11786/0900766b80ef92d0-11786143.pdf?src-supplier=Rs; ComponentLink9URL: https://datasheet.ciiva.com/16213/product-16213384.pdf?src-supplier=Future+Electronics; ComponentLink9Description: https://datasheet.ciiva.com/16213/product-16213384.pdf?src-supplier=Future+Electronics
footprint R0805
pins: 1, 2

## GCM155R71H102KA37D
designator C?  value 1nF  (hidden comment: GCM155R71H102KA37D)
Multilayer Ceramic Capacitor 1000 Pf 50 V ½ 10% X7R 0402 [1005 Metric]; Manufacturer: Murata; Voltage Rating: 50V; Library: Hexabitz; Supplier: Digikey; Supplier Part Number: 490-4761-6-ND; Manufacturer Part Number: GCM155R71H102KA37D; RoHS: Yes; Category: Ceramic Capacitors; Stock: 3587708; Pricing: 1=0.1, 10=0.022, 100=0.0124, 1000=0.00752, 2500=0.00633, 5000=0.00562 (USD); Mounting Technology: Surface Mount; Case/Package: 0402; Case Code (Metric): 1005; Case Code (Imperial): 0402; Material: Ceramic; Min Operating Temperature: -55°C; Max Operating Temperature: 125°C; Package Quantity: 1; Tolerance: 10%; Packaging: Tape and Reel; Voltage Rating (DC): 50V; Dielectric: X7R; Termination: SMD/SMT; Voltage: 50V; Series: GCM; Construction: Flat; Length: 1mm; Width: 0.02inch; Height: 0.5mm; Thickness: 0.022inch; Depth: 0.5mm; Ratings: AEC-Q200; Radiation Hardening: No; Reach SVHC Compliant: No; Lead Free: Lead Free; RoHS Compliant: Yes; ComponentLink1URL: https://datasheet.ciiva.com/130/product-130720.pdf?src-supplier=Digikey; ComponentLink1Description: https://datasheet.ciiva.com/130/product-130720.pdf?src-supplier=Digikey; ComponentLink2URL: https://datasheet.ciiva.com/3778/3103gcm155r71h102ka3723-3778878.pdf?src-supplier=Arrow+Electronics; ComponentLink2Description: https://datasheet.ciiva.com/3778/3103gcm155r71h102ka3723-3778878.pdf?src-supplier=Arrow+Electronics; ComponentLink3URL: https://datasheet.ciiva.com/18183/getdatasheetpartid-140970-18183520.pdf?src-supplier=Verical; ComponentLink3Description: https://datasheet.ciiva.com/18183/getdatasheetpartid-140970-18183520.pdf?src-supplier=Verical; ComponentLink4URL: https://datasheet.ciiva.com/11786/0900766b80ef92d0-11786143.pdf?src-supplier=Rs; ComponentLink4Description: https://datasheet.ciiva.com/11786/0900766b80ef92d0-11786143.pdf?src-supplier=Rs; ComponentLink5URL: https://datasheet.ciiva.com/16213/product-16213384.pdf?src-supplier=Future+Electronics; ComponentLink5Description: https://datasheet.ciiva.com/16213/product-16213384.pdf?src-supplier=Future+Electronics; Supplier 1: Digikey; Supplier Part Number 1: 490-4761-6-ND
footprint C0402
pins: 1, 2

## GCM155R71H222KA37D
designator C?  value 2.2nF  (hidden comment: GCM155R71H222KA37D)
Multilayer Ceramic Capacitor, 2200 pF, 50 V, ï¿½ 10%, X7R, 0402 [1005 Metric]; Manufacturer: Murata; Material: 4241ConductorMaterial; Voltage Rating: 50V; Library: Hexabitz; Supplier: Digikey; Supplier Part Number: 490-4914-6-ND; Manufacturer Part Number: GCM155R71H222KA37D; RoHS: Yes; Category: Ceramic Capacitors; Stock: 212722; Pricing: 1=0.09, 10=0.018, 100=0.09, 1000=0.00622, 2500=0.00523, 5000=0.00464 (EUR); Mounting Technology: Surface Mount; Case/Package: 0402; Case Code (Metric): 1005; Case Code (Imperial): 0402; Weight: 2.3E-05oz; Min Operating Temperature: -55°C; Max Operating Temperature: 125°C; Packaging: Tape and Reel; Tolerance: 10%; Package Quantity: 1; Voltage Rating (DC): 50V; Dielectric: X7R; Termination: SMD/SMT; Voltage: 50V; Series: GCM; Construction: Flat; Length: 1mm; Width: 0.02inch; Height: 0.5mm; Thickness: 0.022inch; Depth: 0.5mm; Ratings: AEC-Q200; Radiation Hardening: No; RoHS Compliant: Yes; Lead Free: 5697LeadFree; ComponentLink1URL: https://datasheet.ciiva.com/130/product-130809.pdf?src-supplier=Digikey; ComponentLink1Description: https://datasheet.ciiva.com/130/product-130809.pdf?src-supplier=Digikey; ComponentLink2URL: https://datasheet.ciiva.com/130/product-130808.pdf?src-supplier=Digikey; ComponentLink2Description: https://datasheet.ciiva.com/130/product-130808.pdf?src-supplier=Digikey; ComponentLink3URL: https://datasheet.ciiva.com/130/product-130810.pdf?src-supplier=Digikey; ComponentLink3Description: https://datasheet.ciiva.com/130/product-130810.pdf?src-supplier=Digikey; ComponentLink4URL: https://datasheet.ciiva.com/11620/product-11620577.pdf?src-supplier=Avnet; ComponentLink4Description: https://datasheet.ciiva.com/11620/product-11620577.pdf?src-supplier=Avnet; ComponentLink5URL: https://datasheet.ciiva.com/26889/getdatasheetpartid-692458-26889132.pdf?src-supplier=Verical; ComponentLink5Description: https://datasheet.ciiva.com/26889/getdatasheetpartid-692458-26889132.pdf?src-supplier=Verical; Supplier 1: Digikey; Supplier Part Number 1: 490-4914-6-ND
footprint C0402
pins: 1, 2

## GCM155R71H223KA55D
designator C?  value 22nF  (hidden comment: GCM155R71H223KA55D)
Multilayer Ceramic Capacitors MLCC - SMD/SMT 0402 0.022uF 50volts X7R 10%; Manufacturer: Murata; Voltage Rating: 50V; Library: Hexabitz; Supplier: Digikey; Supplier Part Number: 490-4763-6-ND; Manufacturer Part Number: GCM155R71H223KA55D; RoHS: Yes; Category: Ceramic Capacitors; Stock: 538554; Pricing: 1=0.1, 10=0.028, 100=0.0162, 1000=0.01, 2500=0.00849, 5000=0.00758 (USD); Mounting Technology: Surface Mount; Case/Package: 0402; Case Code (Metric): 1005; Case Code (Imperial): 0402; Material: Ceramic; Min Operating Temperature: -55°C; Max Operating Temperature: 125°C; Packaging: Tape and Reel; Package Quantity: 1; Tolerance: 10%; Dielectric: X7R; Termination: SMD/SMT; Voltage: 50V; Voltage Rating (DC): 50V; Series: GCM; Construction: Flat; Length: 1mm; Width: 0.02inch; Height: 0.5mm; Thickness: 0.022inch; Depth: 0.5mm; Ratings: AEC-Q200; Radiation Hardening: No; RoHS Compliant: Yes; ComponentLink1URL: https://datasheet.ciiva.com/155/product-155891.pdf?src-supplier=Digikey; ComponentLink1Description: https://datasheet.ciiva.com/155/product-155891.pdf?src-supplier=Digikey; ComponentLink2URL: https://datasheet.ciiva.com/155/product-155890.pdf?src-supplier=Digikey; ComponentLink2Description: https://datasheet.ciiva.com/155/product-155890.pdf?src-supplier=Digikey; ComponentLink3URL: https://datasheet.ciiva.com/155/product-155892.pdf?src-supplier=Digikey; ComponentLink3Description: https://datasheet.ciiva.com/155/product-155892.pdf?src-supplier=Digikey; Supplier 1: Digikey; Supplier Part Number 1: 490-4763-6-ND
footprint C0402
pins: 1, 2

## GCM188R71H224KA64
designator C?  value 220nF  (hidden comment: GCM188R71H224KA64)
Multilayer Ceramic Capacitor, 0.22 uF, 50 V, ï¿½ 10%, X7R, 0603 [1608 Metric]; Manufacturer: Murata; Manufacturer Part Number: GCM188R71H224KA64D; Library: Hexabitz; Material: 4241ConductorMaterial; Voltage Rating: 50V; ComponentLink1URL: https://datasheet.ciiva.com/155/product-155891.pdf?src-supplier=Digikey; ComponentLink1Description: https://datasheet.ciiva.com/155/product-155891.pdf?src-supplier=Digikey; ComponentLink2URL: https://datasheet.ciiva.com/155/product-155890.pdf?src-supplier=Digikey; ComponentLink2Description: https://datasheet.ciiva.com/155/product-155890.pdf?src-supplier=Digikey; ComponentLink3URL: https://datasheet.ciiva.com/155/product-155892.pdf?src-supplier=Digikey; ComponentLink3Description: https://datasheet.ciiva.com/155/product-155892.pdf?src-supplier=Digikey; Supplier: Digikey; Supplier Part Number: 490-5402-6-ND; RoHS: Yes; Category: Ceramic Capacitors; Stock: 124961; Pricing: 1=0.15, 10=0.084, 100=0.0515, 1000=0.0347 (USD); Mounting Technology: Surface Mount; Case/Package: 0603; Case Code (Imperial): 0603; Case Code (Metric): 1608; Min Operating Temperature: -55°C; Max Operating Temperature: 125°C; Tolerance: 10%; Packaging: Tape and Reel; Package Quantity: 10; Dielectric: X7R; Termination: SMD/SMT; Series: GCM; Voltage Rating (DC): 50V; Voltage: 50V; Construction: Flat; Length: 1.6mm; Width: 0.031inch; Height: 0.8mm; Thickness: 0.035inch; Depth: 0.8mm; Ratings: AEC-Q200; Radiation Hardening: No; RoHS Compliant: Yes; Lead Free: 5697LeadFree; Reach SVHC Compliant: No; ComponentLink4URL: https://datasheet.ciiva.com/136/s0717e-136042.pdf?src-supplier=Digikey; ComponentLink4Description: https://datasheet.ciiva.com/136/s0717e-136042.pdf?src-supplier=Digikey; Supplier 1: Digikey; Supplier Part Number 1: 490-5402-6-ND
footprint C0603
pins: 1, 2

## GCM1885C1H162FA16D
designator C?  value 1.6nF  (hidden comment: GCM1885C1H162FA16D)
GCM Series 1600 pF ±1% 50V C0G, NP0 0603 (1608 Metric) Ceramic Capacitor; Manufacturer: Murata; Library: Hexabitz; Material: 4241ConductorMaterial; Temperature Coefficient: 30ppm/°C; ComponentLink1URL: https://datasheet.ciiva.com/155/product-155891.pdf?src-supplier=Digikey; ComponentLink1Description: https://datasheet.ciiva.com/155/product-155891.pdf?src-supplier=Digikey; ComponentLink2URL: https://datasheet.ciiva.com/155/product-155890.pdf?src-supplier=Digikey; ComponentLink2Description: https://datasheet.ciiva.com/155/product-155890.pdf?src-supplier=Digikey; ComponentLink3URL: https://datasheet.ciiva.com/155/product-155892.pdf?src-supplier=Digikey; ComponentLink3Description: https://datasheet.ciiva.com/155/product-155892.pdf?src-supplier=Digikey; Supplier: Digikey; Supplier Part Number: 490-GCM1885C1H162FA16DDKR-ND; Manufacturer Part Number: GCM1885C1H162FA16D; RoHS: Yes; Category: Ceramic Capacitors; Stock: 9863; Pricing: 1=0.18, 10=0.101, 100=0.0624, 1000=0.04272 (USD); Case/Package: 345Case; Min Operating Temperature: -55°C; Max Operating Temperature: 125°C; Tolerance: 1%; Voltage Rating: 50V; Length: 1.6mm; Width: 800um; Height: 900um; Thickness: 800um; RoHS Compliant: Yes; Supplier 1: Digikey; Supplier Part Number 1: 490-GCM1885C1H162FA16DDKR-ND
footprint C0603
pins: 1, 2

## generic Capacitor
designator C?
Library: Hexabitz
footprint C0402
footprint C0603
footprint C0805
footprint C1206
pins: 1, 2

## generic Resistor
designator R?, comment Manufacturer Part Number
Library: Hexabitz
footprint R0402_3
footprint R0603
footprint R0805
footprint R1206
pins: 1, 2